# Altium schematic symbol library PCF8523TK.Schlib: 1 symbol
Pins are listed as number, name and electrical type; pins without a type are passive.

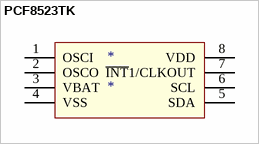
[diagram p0: symbol PCF8523TK]

## PCF8523TK
designator *
pins: 1 OSCI, 2 OSCO, 3 VBAT, 4 VSS, 5 SDA, 6 SCL, 7 ~{INT}1/CLKOUT, 8 VDD